# EAGLE library part 5051101292 (library FPC FFC Connectors)
CONN FPC BOTTOM 12POS .5MM R/A Manufacturer's datasheet <https://www.molex.com/pdm_docs/sd/5051101292_sd.pdf>
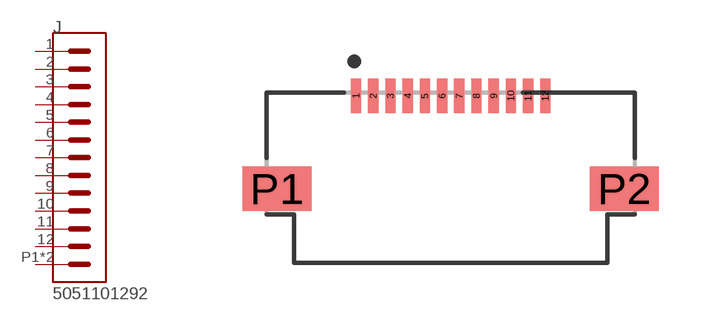
[diagram p11: symbol with the pads of 5051101292; footprint 5051101292]

Designator prefix J

## 5051101292 (CREATED_BY: PCBLayout.com; DIGIKEY_PART_NUMBER: WM12368TR-ND; MANUFACTURER: Molex; MPN: 5051101292)  [5051101292]
1  1  pas
2  2  pas
3  3  pas
4  4  pas
5  5  pas
6  6  pas
7  7  pas
8  8  pas
9  9  pas
10  10  pas
11  11  pas
12  12  pas
P1  SHIELD  pwr
P2  SHIELD  pwr

## Footprint 5051101292 (pad centres in mm)
smd 0.3 x 1: 1 -2.75,0; 2 -2.25,0; 3 -1.75,0; 4 -1.25,0; 5 -0.75,0; 6 -0.25,0; 7 0.25,0; 8 0.75,0; 9 1.25,0; 10 1.75,0; 11 2.25,0; 12 2.75,0
smd 2 x 1.3: P1 -5.05,-2.7; P2 5.05,-2.7